# Altium schematic symbol library Capacitors.SchLib: 27 symbols
Pins are listed as number, name and electrical type; pins without a type are passive.

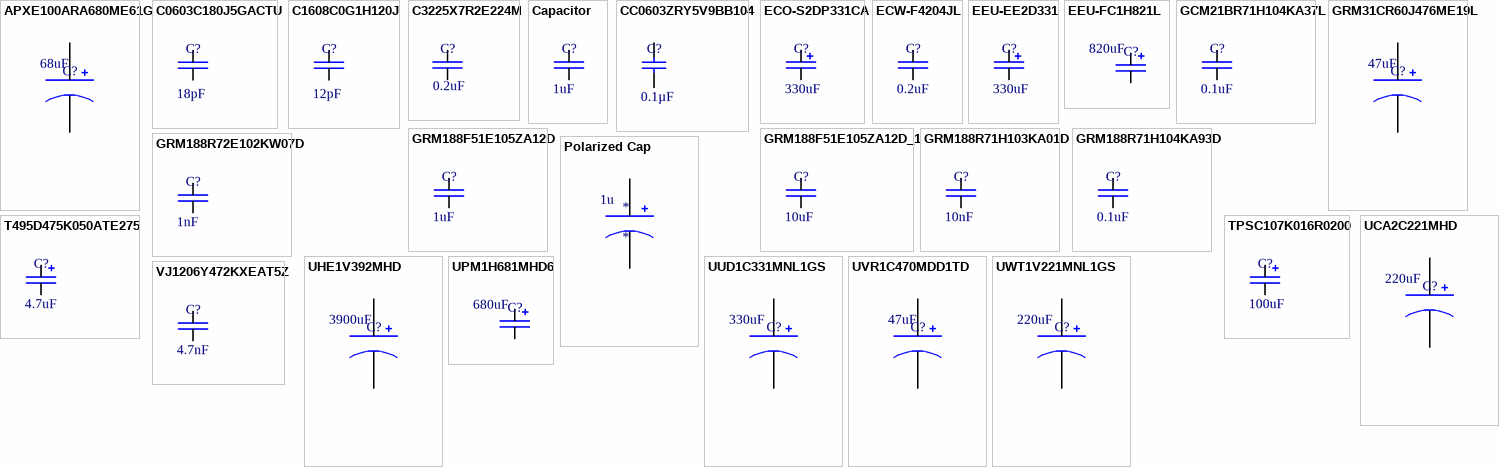
[diagram p0: symbols APXE100ARA680ME61G to VJ1206Y472KXEAT5Z]

## APXE100ARA680ME61G
designator C?  value 68uF  (hidden comment: APXE100ARA680ME61G)
68uF Aluminum SMT 5.3mm x 5.3mm; PageSetup: Record=PageOptions|CenterHorizontal=True|CenterVertical=True|PrintScale=1.00|XCorrection=1.00|YCorrection=1.00|PrintKind=0|BorderSize=5000000|LeftOffset=0|BottomOffset=0|Orientation=1|PaperLength=1000|PaperWidth=1000|Scale=100|PaperSource=7|PrintQuality=-4|MediaType=1|DitherType=10|PaperKind=Letter|PrintScaleMode=0; ComponentLink1Description: Datasheet; ComponentLink1URL: http://www.chemi-con.co.jp/e/catalog/pdf/al-e/al-sepa-e/002-cp/al-pxe-e-100701.pdf; ComponentLink2Description: Supplier1; ComponentLink2URL: http://parts.digikey.com/1/parts/1383179-cap-68uf-10v-elect-poly-smd-apxe100ara680me61g.html
footprint Model Name (Model Description)
footprint Model Name (Model Description)
pins: 1, 2

## C0603C180J5GACTU
designator C?  value 18pF  (hidden comment: *)
18pF Ceramic SMT 0603
footprint 0603_B (0603 Style B SMT capacitor)
pins: 1, 2

## C1608C0G1H120J
designator C?  value 12pF  (hidden comment: *)
12pF Ceramic SMT 0603
footprint 0603_B (0603 Style B SMT capacitor)
pins: 1, 2

## C3225X7R2E224M
designator C?  value 0.2uF  (hidden comment: C3225X7R2E224M)
Ceramic 0.2uF SMT 3.2mm x 2.5mm x 2mm; ComponentLink1Description: Datasheet; ComponentLink1URL: http://www.tdk.co.jp/tefe02/e413_c.pdf; ComponentLink2Description: Supplier 1; ComponentLink2URL: http://www.mouser.com/ProductDetail/TDK/C3225X7R2E224M/?qs=sGAEpiMZZMvQvaS66kI3TpeG6DWozw6PIeiZPqhgxLs%3d
pins: 1, 2

## Capacitor
designator C?  value 1uF  (hidden comment: Capacitor)
Base Component; ComponentLink1Description: *; ComponentLink1URL: *; ComponentLink2Description: *; ComponentLink2URL: *
footprint Model Name (Model Description)
pins: 1, 2

## CC0603ZRY5V9BB104
designator C?  Capacitance: 0.1µF  (hidden comment: CC0603ZRY5V9BB104)
Capacitor, 0.1µF, 0603 SMT, Ceramic; Voltage: 50V; Temperature Coefficient: Y5V; Tolerance: -20%, +80%; MFG Part Number: CC0603ZRY5V9BB104; ComponentLink1Description: Datasheet; ComponentLink1URL: http://www.yageo.com/documents/recent/UPY-GPHC_Y5V_6.3V-to-50V_5.pdf; ComponentLink2Description: MFG Product Page; ComponentLink3URL: http://www.yageo.com/documents/recent/UPY-C_INT_10.pdf; ComponentLink3Description: Introduction to SMT Ceramic Caps; ComponentLink4Description: Mechanical Data; ComponentLink2URL: http://www.yageo.com/portal/product/productDocs.jsp?YageoPartNumber=CC0603ZRY5V9BB104; ComponentLink4URL: http://www.yageo.com/documents/recent/UPY-C_GEN_13.pdf; Package: 0603
footprint 0603_B (0603 Style B SMT capacitor)
pins: 1, 2

## ECO-S2DP331CA
designator C?  value 330uF
CAPACITOR 330UF 200V ELECT TSUP; ComponentLink1Description: Datasheet; ComponentLink1URL: http://www.panasonic.com/industrial/components/pdf/PIC_TS-UP_SERIES_DNE.pdf; ComponentLink2Description: Supplier 1; ComponentLink2URL: http://search.digikey.com/scripts/DkSearch/dksus.dll?Detail&name=P6117-ND
footprint 25mm dia, 25mm H (25mm x  25mm, vertical, leaded capacitor)
pins: 1, 2

## ECW-F4204JL
designator C?  value 0.2uF  (hidden comment: ECW-F4204JL)
0.2uF Ceramic Throughhole 400V metal film; ComponentLink1Description: Datasheet; ComponentLink1URL: http://industrial.panasonic.com/www-data/pdf/ABD0000/ABD0000CE40.pdf; ComponentLink2Description: Supplier 1; ComponentLink2URL: http://search.digikey.com/scripts/DkSearch/dksus.dll?Detail&name=P12106-ND
footprint Thruhole generic
pins: 1, 2

## EEU-EE2D331
designator C?, comment value 330uF  (hidden comment: C3216Y5V1E106Z)
CAP 330UF 200V ELECT EE RADIAL; ComponentLink1Description: Datasheet; ComponentLink1URL: http://industrial.panasonic.com/www-data/pdf/ABA0000/ABA0000CE113.pdf; ComponentLink2Description: Supplier 1; ComponentLink2URL: http://search.digikey.com/scripts/DkSearch/dksus.dll?Detail&name=P13639-ND
footprint 18x40mm V (18mm x 40 mm, vertical, leaded capacitor)
pins: 1, 2

## EEU-FC1H821L
designator C?  value 820uF  (hidden comment: EEU-FC1H821L)
Al Electro 820uF 50V Panasonic FC series; ComponentLink1Description: Datasheet; ComponentLink1URL: http://industrial.panasonic.com/www-cgi/jvcr13pz.cgi?E+PZ+3+ABA0022+EEUFC1H821L+7+WW; ComponentLink2Description: Supplier 1; ComponentLink2URL: http://search.digikey.com/scripts/DkSearch/dksus.dll?Detail&name=P10332-ND
footprint 12.5x35mm_pol; pin to pad 1>2 2>1
pins: 1, 2

## GCM21BR71H104KA37L
designator C?  value 0.1uF  (hidden comment: GCM21BR71H104KA37L)
0.1uF Ceramic 2mm x 1.25mm x 1.25mm; ComponentLink1Description: Datasheet; ComponentLink1URL: http://www.murata.com/catalog/c03e2.pdf; ComponentLink2Description: Supplier 1; ComponentLink2URL: http://www.mouser.com/ProductDetail/Murata/GCM21BR71H104KA37L/?qs=sGAEpiMZZMvQvaS66kI3TjDz0r7iCaoLWvMByZfsvEE%3d
footprint Model Name (Model Description)
pins: 1, 2

## GRM31CR60J476ME19L
designator C?  value 47uF  (hidden comment: GRM31CR60J476ME19L)
CAP CER 47UF 6.3V X5R 1206; ComponentLink1Description: Datasheet; ComponentLink1URL: http://search.murata.co.jp/Ceramy/image/img/PDF/ENG/GRM31CR60J476ME19.pdf; ComponentLink2Description: Supplier 1; ComponentLink2URL: http://search.digikey.com/scripts/DkSearch/dksus.dll?Detail&name=490-3907-1-ND
footprint 1206 (1206 SMT resistor)
pins: 1, 2 1

## GRM188F51E105ZA12D
designator C?  value 1uF  (hidden comment: GRM188F51E105ZA12D)
1uF Ceramic SMT 0603; ComponentLink1Description: Datasheet; ComponentLink1URL: http://search.murata.co.jp/Ceramy/image/img/PDF/ENG/GRM188R71H103KA01.pdf; ComponentLink2Description: Supplier 1; ComponentLink2URL: http://search.digikey.com/scripts/DkSearch/dksus.dll?Detail&name=490-1512-1-ND
footprint 0603_B (0603 Style B SMT capacitor)
pins: 1, 2

## GRM188F51E105ZA12D_1
designator C?, comment value 10uF  (hidden comment: EMK107BBJ106MA-T)
10uF Ceramic SMT 0603; ComponentLink1Description: Datasheet; ComponentLink1URL: http://search.murata.co.jp/Ceramy/image/img/PDF/ENG/GRM188R71H103KA01.pdf; ComponentLink2Description: Supplier 1; ComponentLink2URL: http://www.digikey.com/product-detail/en/EMK107BBJ106MA-T/587-3238-1-ND/3660091
footprint 0603_B (0603 Style B SMT capacitor)
pins: 1, 2

## GRM188R71H103KA01D
designator C?  value 10nF  (hidden comment: GRM188R71H103KA01D)
10nF Ceramic SMT 0603; ComponentLink1Description: Datasheet; ComponentLink1URL: http://search.murata.co.jp/Ceramy/image/img/PDF/ENG/GRM188R71H103KA01.pdf; ComponentLink2Description: Supplier 1; ComponentLink2URL: http://search.digikey.com/scripts/DkSearch/dksus.dll?Detail&name=490-1512-1-ND
footprint 0603_A (0603 Style A SMT capacitor)
pins: 1, 2

## GRM188R71H104KA93D
designator C?  value 0.1uF  (hidden comment: GRM188R71H104KA93D)
0.1uF Ceramic SMT 0603 50V; ComponentLink1Description: Datasheet; ComponentLink1URL: http://search.murata.co.jp/Ceramy/image/img/PDF/ENG/GRM188R71H104KA93.pdf; ComponentLink2Description: Supplier 1; ComponentLink2URL: http://search.digikey.com/scripts/DkSearch/dksus.dll?Detail&name=490-1519-1-ND
footprint 0603_B (0603 Style B SMT capacitor)
pins: 1, 2

## GRM188R72E102KW07D
designator C?  value 1nF  (hidden comment: GRM188R72E102KW07D)
1000pf SMT 0606 Ceramic Capcitor 250V; ComponentLink1Description: Datasheet; ComponentLink1URL: http://www.murata.com/~/media/webrenewal/support/library/catalog/products/capacitor/mlcc/c02e.pdf; ComponentLink2Description: Supplier Page; ComponentLink2URL: http://www.digikey.com/product-detail/en/murata-electronics-north-america/GRM188R72E102KW07D/490-3526-1-ND/789431
footprint 0603_A (0603 Style A SMT capacitor)
pins: 1, 2

## Polarized Cap
designator *  value 1u
ComponentLink1Description: *; ComponentLink1URL: *; ComponentLink2Description: *; ComponentLink2URL: *
footprint Model Name (Model Description)
pins: 1, 2

## T495D475K050ATE275
designator C?  value 4.7uF  (hidden comment: T495D475K050ATE275)
CAP TANT 4.7UF 50V 10% SMD 7343; ComponentLink1Description: Datasheet; ComponentLink1URL: http://www.kemet.com/kemet/web/homepage/kechome.nsf/vapubfiles/F3102_T495.pdf/$file/F3102_T495.pdf; ComponentLink2Description: Supplier 1; ComponentLink2URL: http://search.digikey.com/scripts/DkSearch/dksus.dll?Detail&name=399-4786-1-ND
footprint 7343-31 polarized (tantalum footprint, positive marked); pin to pad 1>2 2>1
pins: 1, 2

## TPSC107K016R0200
designator C?  value 100uF  (hidden comment: TPSC107K016R0200)
100uF Tant SMT 6032; ComponentLink1Description: Datasheet; ComponentLink1URL: http://www.avx.com/docs/Catalogs/tps.pdf; ComponentLink2Description: Supplier 1; ComponentLink2URL: http://search.digikey.com/scripts/DkSearch/dksus.dll?Detail&name=478-5262-1-ND
footprint 6032 Polarized (tantalum footprint, positive marked); pin to pad 1>2 2>1
pins: 1, 2

## UCA2C221MHD
designator C?  value 220uF  (hidden comment: UCA2C221MHD)
Al Electro 220uF 16mm Dia x 31.5mm L; ComponentLink1Description: Datasheet; ComponentLink1URL: http://products.nichicon.co.jp/en/pdf/XJA043/e-ca.pdf; ComponentLink2Description: Supplier 1; ComponentLink2URL: http://www.mouser.com/ProductDetail/Nichicon/UCA2C221MHD/?qs=sGAEpiMZZMtZ1n0r9vR22QqBJceYP9INWO01w91zXWo%3d
footprint 16x31.5mm H L (16mm x 31.5mm, horizontal orientation, left bend, leaded capacitor)
pins: 1, 2

## UHE1V392MHD
designator C?  value 3900uF  (hidden comment: UHE1V392MHD)
Al Electro 3900uF 18mm Dia x 40mm L; ComponentLink1Description: Datasheet; ComponentLink1URL: http://products.nichicon.co.jp/en/pdf/XJA043/e-he.pdf; ComponentLink2Description: Supplier 1; ComponentLink2URL: http://www.mouser.com/ProductDetail/Nichicon/UHE1V392MHD/?qs=sGAEpiMZZMtZ1n0r9vR22VnKtxyD4xsRAEK7nEEfyKs%3d
footprint 18x40mm H l (18mm x 40mm, horizontal orientation, left bend, leaded capacitor)
pins: 1, 2

## UPM1H681MHD6
designator C?  value 680uF  (hidden comment: UPM1H681MHD6)
Al Electro 680uF 50V Nichicon PM series; ComponentLink1Description: Datasheet; ComponentLink1URL: http://products.nichicon.co.jp/en/pdf/XJA043/e-pm.pdf; ComponentLink2Description: Supplier 1; ComponentLink2URL: http://www.mouser.com/ProductDetail/Nichicon/UPM1H681MHD6/?qs=sGAEpiMZZMtZ1n0r9vR22bWlSlpQNIMtXjQpFhGVLdA%3d
footprint 16x20mm_pol; pin to pad 1>2 2>1
pins: 1, 2

## UUD1C331MNL1GS
designator C?  value 330uF  (hidden comment: UUD1C331MNL1GS)
Al Electro 330uF 8.30mm x 8.30mm; ComponentLink1Description: Datasheet; ComponentLink1URL: http://nichicon-us.com/english/products/pdf/e-ud.pdf; ComponentLink2Description: Supplier 1; ComponentLink2URL: http://search.digikey.com/scripts/DkSearch/dksus.dll?Detail&name=493-2265-1-ND
footprint 8.30mm x 8.30mm polarized; pin to pad 2>0
pins: 1, 2

## UVR1C470MDD1TD
designator C?  value 47uF  (hidden comment: UVR1C470MDD1TD)
47uF Al Electro 8mm Dia. x 11.5mm L; ComponentLink1Description: Datasheet; ComponentLink1URL: http://products.nichicon.co.jp/en/pdf/XJA043/e-vr.pdf; ComponentLink2Description: Supplier 1; ComponentLink2URL: http://www.mouser.com/ProductDetail/Nichicon/UVR1C470MDD1TD/?qs=sGAEpiMZZMtZ1n0r9vR22V%2flPcxpPveTNh8GcYhc2RU%3d
footprint Model Name (Model Description)
pins: 1, 2 1

## UWT1V221MNL1GS
designator C?  value 220uF  (hidden comment: UWT1V221MNL1GS)
CAP ALUM 220UF 35V 20% SMD; ComponentLink1Description: Datasheet; ComponentLink1URL: http://nichicon-us.com/english/products/pdf/e-wt.pdf; ComponentLink2Description: Supplier 1; ComponentLink2URL: http://search.digikey.com/us/en/products/UWT1V221MNL1GS/493-2205-1-ND/590180
footprint 8.30mm x 8.30mm polarized; pin to pad 2>0
pins: 1, 2

## VJ1206Y472KXEAT5Z
designator C?  value 4.7nF  (hidden comment: VJ1206Y472KXEAT5Z)
47000pF Ceramic SMT 3216 500V; ComponentLink1Description: Datasheet; ComponentLink1URL: http://www.vishay.com/docs/45197/vjhvarc.pdf; ComponentLink2Description: Supplier 1; ComponentLink2URL: http://search.digikey.com/scripts/DkSearch/dksus.dll?Detail&name=720-1031-1-ND
footprint 1206 (1206 SMT capacitor)
pins: 1, 2